# EAGLE library part CD4051BM96 (library CD4051BM96)
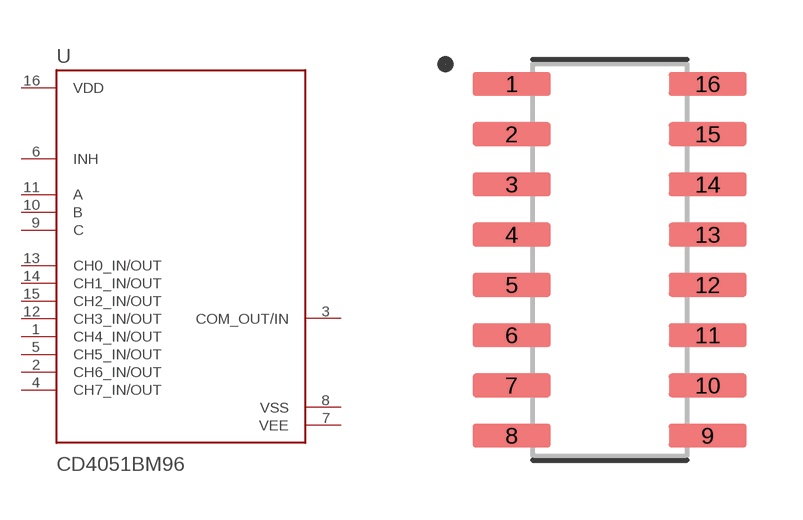
[diagram p0: symbol with the pads of SOIC127P600X175-16N; footprint SOIC127P600X175-16N]

Designator prefix U

## CD4051BM96 (MANUFACTURER: Texas Instruments; MAXIMUM_PACKAGE_HEIGHT: 1.75mm; PARTREV: I; STANDARD: IPC-7351B)  [SOIC127P600X175-16N]
1  CH4_IN/OUT
2  CH6_IN/OUT
3  COM_OUT/IN
4  CH7_IN/OUT
5  CH5_IN/OUT
6  INH  in
7  VEE  pwr
8  VSS  pwr
9  C  in
10  B  in
11  A  in
12  CH3_IN/OUT
13  CH0_IN/OUT
14  CH1_IN/OUT
15  CH2_IN/OUT
16  VDD  pwr

## Footprint SOIC127P600X175-16N (pad centres in mm)
smd 1.97 x 0.6: 1 -2.475,4.445; 2 -2.475,3.175; 3 -2.475,1.905; 4 -2.475,0.635; 5 -2.475,-0.635; 6 -2.475,-1.905; 7 -2.475,-3.175; 8 -2.475,-4.445; 9 2.475,-4.445; 10 2.475,-3.175; 11 2.475,-1.905; 12 2.475,-0.635; 13 2.475,0.635; 14 2.475,1.905; 15 2.475,3.175; 16 2.475,4.445